# EAGLE library part MCP9808_BREAKOUT (library Adafruit_Modules)
MCP9808 High Accuracy I2C Temperature Sensor Breakout Board
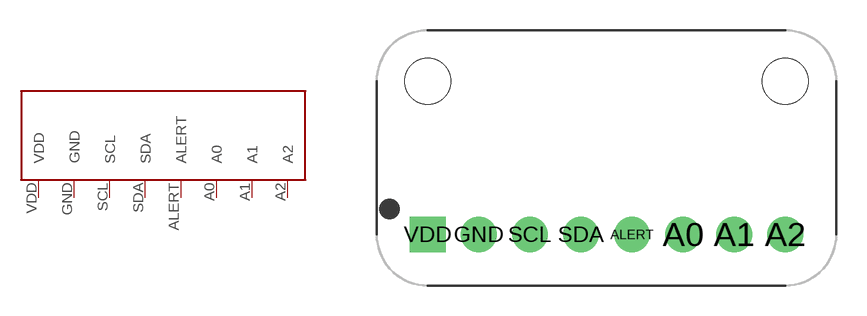
[diagram p7: symbol with the pads of MCP9808; footprint MCP9808]

Designator prefix -

## MCP9808_BREAKOUT (ADAFRUIT: 1782)  [MCP9808]
A0  A0
A1  A1
A2  A2
ALERT  ALERT
GND  GND  pwr
SCL  SCL
SDA  SDA
VDD  VDD  pwr

## Footprint MCP9808 (pad centres in mm)
MCP9808 Breakout Board
drill 1.016 pad 1.778: A0 3.81,1.27; A1 6.35,1.27; A2 8.89,1.27; ALERT 1.27,1.27; GND -6.35,1.27; SCL -3.81,1.27; SDA -1.27,1.27
drill 1.016 pad 1.778 square: VDD -8.89,1.27
hole 2.286 at -8.89,8.89
hole 2.286 at 8.89,8.89